# EAGLE library part D__7SEGMENT_TOD4201FG (library ++Bedrahtet)
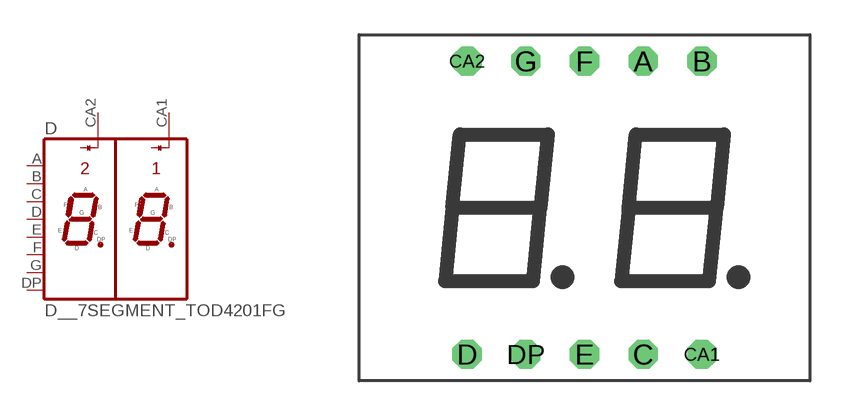
[diagram p20: symbol with the pads of 7-SEG-TOD4201FG; footprint 7-SEG-TOD4201FG]

Designator prefix D

## D__7SEGMENT_TOD4201FG  [7-SEG-TOD4201FG]
A  A  pas
B  B  pas
C  C  pas
CA1  CA1  pas
CA2  CA2  pas
D  D  pas
DP  DP  pas
E  E  pas
F  F  pas
G  G  pas

## Footprint 7-SEG-TOD4201FG (pad centres in mm)
drill 0.6 pad 1.27 octagon: A 2.54,6.35; B 5.08,6.35; C 2.54,-6.35; CA1 5.08,-6.35; CA2 -5.08,6.35; D -5.08,-6.35; DP -2.54,-6.35; E 0,-6.35; F 0,6.35; G -2.54,6.35